# EAGLE library part ESP32-DEVKITC-32D (library ESP32-DEVKITC-32D)
Eval Board For Esp-Wroom-32 Check prices <https://pricing.snapeda.com/search/part/ESP32-DEVKITC-32D/?ref=eda>
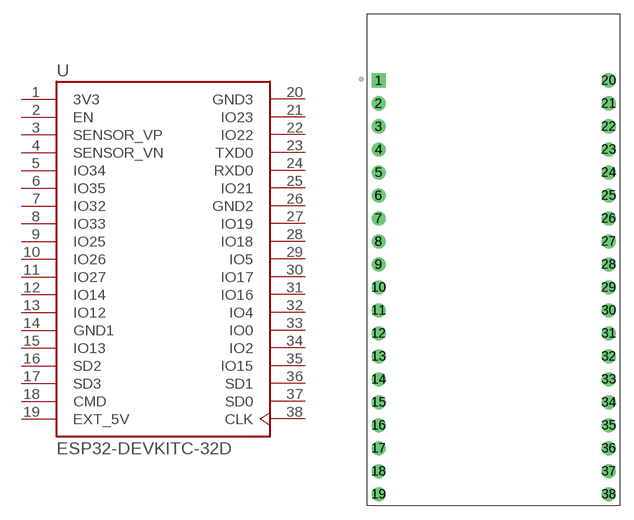
[diagram p0: symbol with the pads of MODULE_ESP32-DEVKITC-32D; footprint MODULE_ESP32-DEVKITC-32D]

Designator prefix U

## ESP32-DEVKITC-32D (MANUFACTURER-PART-NUMBER: ESP32-DEVKITC-32D, SLW-119-01-T-S < buy two of these; PACKAGE: None; SIMILAR-COMPONENTS: none, https://www.adafruit.com/product/3008)  [MODULE_ESP32-DEVKITC-32D]
1  3V3  pwr
2  EN  in
3  SENSOR_VP  in
4  SENSOR_VN  in
5  IO34
6  IO35
7  IO32
8  IO33
9  IO25
10  IO26
11  IO27
12  IO14
13  IO12
14  GND1  pwr
15  IO13
16  SD2
17  SD3
18  CMD
19  EXT_5V  pwr
20  GND3  pwr
21  IO23
22  IO22
23  TXD0  out
24  RXD0  in
25  IO21
26  GND2  pwr
27  IO19
28  IO18
29  IO5
30  IO17
31  IO16
32  IO4
33  IO0
34  IO2
35  IO15
36  SD1
37  SD0
38  CLK  in

## Footprint MODULE_ESP32-DEVKITC-32D (pad centres in mm)
drill 1.04 square: 1 -12.7,19.76
drill 1.04: 2 -12.7,17.22; 3 -12.7,14.68; 4 -12.7,12.14; 5 -12.7,9.6; 6 -12.7,7.06; 7 -12.7,4.52; 8 -12.7,1.98; 9 -12.7,-0.56; 10 -12.7,-3.1; 11 -12.7,-5.64; 12 -12.7,-8.18; 13 -12.7,-10.72; 14 -12.7,-13.26; 15 -12.7,-15.8; 16 -12.7,-18.34; 17 -12.7,-20.88; 18 -12.7,-23.42; 19 -12.7,-25.96; 20 12.7,19.76; 21 12.7,17.22; 22 12.7,14.68; 23 12.7,12.14; 24 12.7,9.6; 25 12.7,7.06; 26 12.7,4.52; 27 12.7,1.98; 28 12.7,-0.56; 29 12.7,-3.1; 30 12.7,-5.64; 31 12.7,-8.18; 32 12.7,-10.72; 33 12.7,-13.26; 34 12.7,-15.8; 35 12.7,-18.34; 36 12.7,-20.88; 37 12.7,-23.42; 38 12.7,-25.96